# EAGLE library part INA301A1IDGKR (library INA301A1IDGKR)
36V, Low-/High-side, Voltage Output CSA with Comparator Source: Datasheet <http://www.ti.com/lit/gpn/INA301>
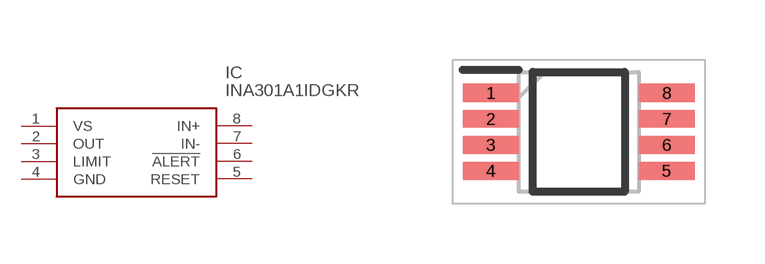
[diagram p0: symbol with the pads of SOP65P490X110-8N; footprint SOP65P490X110-8N]

Designator prefix IC

## INA301A1IDGKR (Description: 36V, Low-/High-side, Voltage Output CSA with Comparator; Height: 1.1mm; Manufacturer_Name: Texas Instruments; Manufacturer_Part_Number: INA301A1IDGKR; Mouser_Part_Number: 595-INA301A1IDGKR; Mouser_Price-Stock: https://www.mouser.co.uk/ProductDetail/Texas-Instruments/INA301A1IDGKR?qs=yajEpaT76uR6go0HjUkNgA%3D%3D)  [SOP65P490X110-8N]
1  VS
2  OUT
3  LIMIT
4  GND
5  RESET
6  !ALERT
7  IN-
8  IN+

## Footprint SOP65P490X110-8N (pad centres in mm)
DGK (S-PDSO-G8)
smd 1.4 x 0.45: 1 -2.2,0.975; 2 -2.2,0.325; 3 -2.2,-0.325; 4 -2.2,-0.975; 5 2.2,-0.975; 6 2.2,-0.325; 7 2.2,0.325; 8 2.2,0.975